# EAGLE library part JETSON_NANO (library FaBo-Boards)
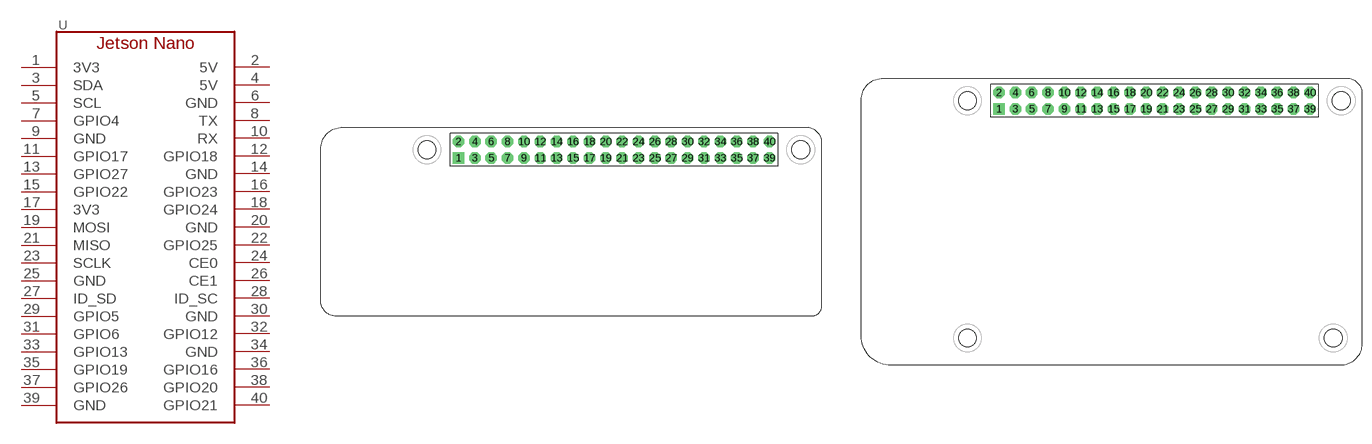
[diagram p11: symbol with the pads of JETSON_NANO; footprints JETSON_NANO, JETSON_NANO_WIDE]

Designator prefix -

## JETSON_NANO  [JETSON_NANO]
1  3V3
2  5V
3  SDA
4  5V
5  SCL
6  GND
7  GPIO4
8  TX
9  GND
10  RX
11  GPIO17
12  GPIO18
13  GPIO27
14  GND
15  GPIO22
16  GPIO23
17  3V3
18  GPIO24
19  MOSI
20  GND
21  MISO
22  GPIO25
23  SCLK
24  CE0
25  GND
26  CE1
27  ID_SD
28  ID_SC
29  GPIO5
30  GND
31  GPIO6
32  GPIO12
33  GPIO13
34  GND
35  GPIO19
36  GPIO16
37  GPIO26
38  GPIO20
39  GND
40  GPIO21

## JETSON_NANO_WIDE  [JETSON_NANO_WIDE]
Pads as for JETSON_NANO

## JETSON_NANO_NOBORDER  [JETSON_NANO_NOBOARDER]
Pads as for JETSON_NANO

## JETSON_NANO_NORBORDER_BOTTOM  [JETSON_NANO_NOBOARDER_BOTTOM]
Pads as for JETSON_NANO

## JETSON_NANOJETSON_NANO_OVERALL  [JETSON_NANO_DEMENTION]
Pads as for JETSON_NANO

## JETSON_NANOJETSON_ORIN_NANO  [JETSON_ORIN_NANO_DIMENTION]
Pads as for JETSON_NANO

## Footprint JETSON_NANO (pad centres in mm)
drill 1 pad 1.778 square: 1 -24.13,10.16
drill 1 pad 1.778 octagon: 2 -24.13,12.7; 3 -21.59,10.16; 4 -21.59,12.7; 5 -19.05,10.16; 6 -19.05,12.7; 7 -16.51,10.16; 8 -16.51,12.7; 9 -13.97,10.16; 10 -13.97,12.7; 11 -11.43,10.16; 12 -11.43,12.7; 13 -8.89,10.16; 14 -8.89,12.7; 15 -6.35,10.16; 16 -6.35,12.7; 17 -3.81,10.16; 18 -3.81,12.7; 19 -1.27,10.16; 20 -1.27,12.7; 21 1.27,10.16; 22 1.27,12.7; 23 3.81,10.16; 24 3.81,12.7; 25 6.35,10.16; 26 6.35,12.7; 27 8.89,10.16; 28 8.89,12.7; 29 11.43,10.16; 30 11.43,12.7; 31 13.97,10.16; 32 13.97,12.7; 33 16.51,10.16; 34 16.51,12.7; 35 19.05,10.16; 36 19.05,12.7; 37 21.59,10.16; 38 21.59,12.7; 39 24.13,10.16; 40 24.13,12.7

## Footprint JETSON_NANO_WIDE (pad centres in mm)
drill 1 pad 1.778 square: 1 -17.78,15.24
drill 1 pad 1.778 octagon: 2 -17.78,17.78; 3 -15.24,15.24; 4 -15.24,17.78; 5 -12.7,15.24; 6 -12.7,17.78; 7 -10.16,15.24; 8 -10.16,17.78; 9 -7.62,15.24; 10 -7.62,17.78; 11 -5.08,15.24; 12 -5.08,17.78; 13 -2.54,15.24; 14 -2.54,17.78; 15 0,15.24; 16 0,17.78; 17 2.54,15.24; 18 2.54,17.78; 19 5.08,15.24; 20 5.08,17.78; 21 7.62,15.24; 22 7.62,17.78; 23 10.16,15.24; 24 10.16,17.78; 25 12.7,15.24; 26 12.7,17.78; 27 15.24,15.24; 28 15.24,17.78; 29 17.78,15.24; 30 17.78,17.78; 31 20.32,15.24; 32 20.32,17.78; 33 22.86,15.24; 34 22.86,17.78; 35 25.4,15.24; 36 25.4,17.78; 37 27.94,15.24; 38 27.94,17.78; 39 30.48,15.24; 40 30.48,17.78

## Footprint JETSON_NANO_NOBOARDER (pad centres in mm)
drill 1 pad 1.778 square: 1 1.27,1.27
drill 1 pad 1.778 octagon: 2 1.27,3.81; 3 3.81,1.27; 4 3.81,3.81; 5 6.35,1.27; 6 6.35,3.81; 7 8.89,1.27; 8 8.89,3.81; 9 11.43,1.27; 10 11.43,3.81; 11 13.97,1.27; 12 13.97,3.81; 13 16.51,1.27; 14 16.51,3.81; 15 19.05,1.27; 16 19.05,3.81; 17 21.59,1.27; 18 21.59,3.81; 19 24.13,1.27; 20 24.13,3.81; 21 26.67,1.27; 22 26.67,3.81; 23 29.21,1.27; 24 29.21,3.81; 25 31.75,1.27; 26 31.75,3.81; 27 34.29,1.27; 28 34.29,3.81; 29 36.83,1.27; 30 36.83,3.81; 31 39.37,1.27; 32 39.37,3.81; 33 41.91,1.27; 34 41.91,3.81; 35 44.45,1.27; 36 44.45,3.81; 37 46.99,1.27; 38 46.99,3.81; 39 49.53,1.27; 40 49.53,3.81

## Footprint JETSON_NANO_NOBOARDER_BOTTOM (pad centres in mm)
drill 1 pad 1.778 square: 1 -25.4,1.27
drill 1 pad 1.778 octagon: 2 -25.4,-1.27; 3 -22.86,1.27; 4 -22.86,-1.27; 5 -20.32,1.27; 6 -20.32,-1.27; 7 -17.78,1.27; 8 -17.78,-1.27; 9 -15.24,1.27; 10 -15.24,-1.27; 11 -12.7,1.27; 12 -12.7,-1.27; 13 -10.16,1.27; 14 -10.16,-1.27; 15 -7.62,1.27; 16 -7.62,-1.27; 17 -5.08,1.27; 18 -5.08,-1.27; 19 -2.54,1.27; 20 -2.54,-1.27; 21 0,1.27; 22 0,-1.27; 23 2.54,1.27; 24 2.54,-1.27; 25 5.08,1.27; 26 5.08,-1.27; 27 7.62,1.27; 28 7.62,-1.27; 29 10.16,1.27; 30 10.16,-1.27; 31 12.7,1.27; 32 12.7,-1.27; 33 15.24,1.27; 34 15.24,-1.27; 35 17.78,1.27; 36 17.78,-1.27; 37 20.32,1.27; 38 20.32,-1.27; 39 22.86,1.27; 40 22.86,-1.27

## Footprint JETSON_NANO_DEMENTION (pad centres in mm)
drill 1 pad 1.778 square: 1 0,0
drill 1 pad 1.778 octagon: 2 0,2.54; 3 2.54,0; 4 2.54,2.54; 5 5.08,0; 6 5.08,2.54; 7 7.62,0; 8 7.62,2.54; 9 10.16,0; 10 10.16,2.54; 11 12.7,0; 12 12.7,2.54; 13 15.24,0; 14 15.24,2.54; 15 17.78,0; 16 17.78,2.54; 17 20.32,0; 18 20.32,2.54; 19 22.86,0; 20 22.86,2.54; 21 25.4,0; 22 25.4,2.54; 23 27.94,0; 24 27.94,2.54; 25 30.48,0; 26 30.48,2.54; 27 33.02,0; 28 33.02,2.54; 29 35.56,0; 30 35.56,2.54; 31 38.1,0; 32 38.1,2.54; 33 40.64,0; 34 40.64,2.54; 35 43.18,0; 36 43.18,2.54; 37 45.72,0; 38 45.72,2.54; 39 48.26,0; 40 48.26,2.54

## Footprint JETSON_ORIN_NANO_DIMENTION (pad centres in mm)
drill 1 pad 1.778 square: 1 21.9,2.7
drill 1 pad 1.778 octagon: 2 21.9,5.24; 3 24.44,2.7; 4 24.44,5.24; 5 26.98,2.7; 6 26.98,5.24; 7 29.52,2.7; 8 29.52,5.24; 9 32.06,2.7; 10 32.06,5.24; 11 34.6,2.7; 12 34.6,5.24; 13 37.14,2.7; 14 37.14,5.24; 15 39.68,2.7; 16 39.68,5.24; 17 42.22,2.7; 18 42.22,5.24; 19 44.76,2.7; 20 44.76,5.24; 21 47.3,2.7; 22 47.3,5.24; 23 49.84,2.7; 24 49.84,5.24; 25 52.38,2.7; 26 52.38,5.24; 27 54.92,2.7; 28 54.92,5.24; 29 57.46,2.7; 30 57.46,5.24; 31 60,2.7; 32 60,5.24; 33 62.54,2.7; 34 62.54,5.24; 35 65.08,2.7; 36 65.08,5.24; 37 67.62,2.7; 38 67.62,5.24; 39 70.16,2.7; 40 70.16,5.24